# EAGLE library part LTRBGFSF-ABCB-QKYO-0-0-R18-Z (library SamacSys_Parts)
LED RGB DIFFUSED 6SMD Source: Datasheet <https://dammedia.osram.info/media/resource/hires/osram-dam-2493400/LTRB GFSF.pdf>
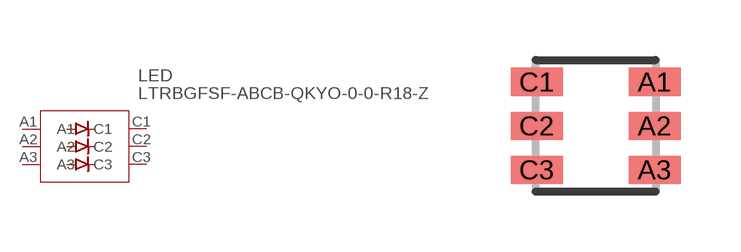
[diagram p21: symbol with the pads of PLCC-6; footprint PLCC-6]

Designator prefix LED

## LTRBGFSF-ABCB-QKYO-0-0-R18-Z (DESCRIPTION: LED RGB DIFFUSED 6SMD; HEIGHT: mm; MANUFACTURER_NAME: OSRAM Opto Semiconductors; MANUFACTURER_PART_NUMBER: LTRBGFSF-ABCB-QKYO-0-0-R18-Z; MOUSER_PART_NUMBER: N/A; MOUSER_PRICE-STOCK: https://www.mouser.com/Search/Refine.aspx?Keyword=N%2FA)  [PLCC-6]
A1  A1
A2  A2
A3  A3
C1  C1
C2  C2
C3  C3

## Footprint PLCC-6 (pad centres in mm)
PLCC-6
smd 1.3 x 0.7: A1 1.475,1.1; A2 1.475,0; A3 1.475,-1.1; C1 -1.475,1.1; C2 -1.475,0; C3 -1.475,-1.1